# Altium integrated library TI Amplifiers and Linear Special Function Amplifier.IntLib: 708 symbols (part 43 of 47)
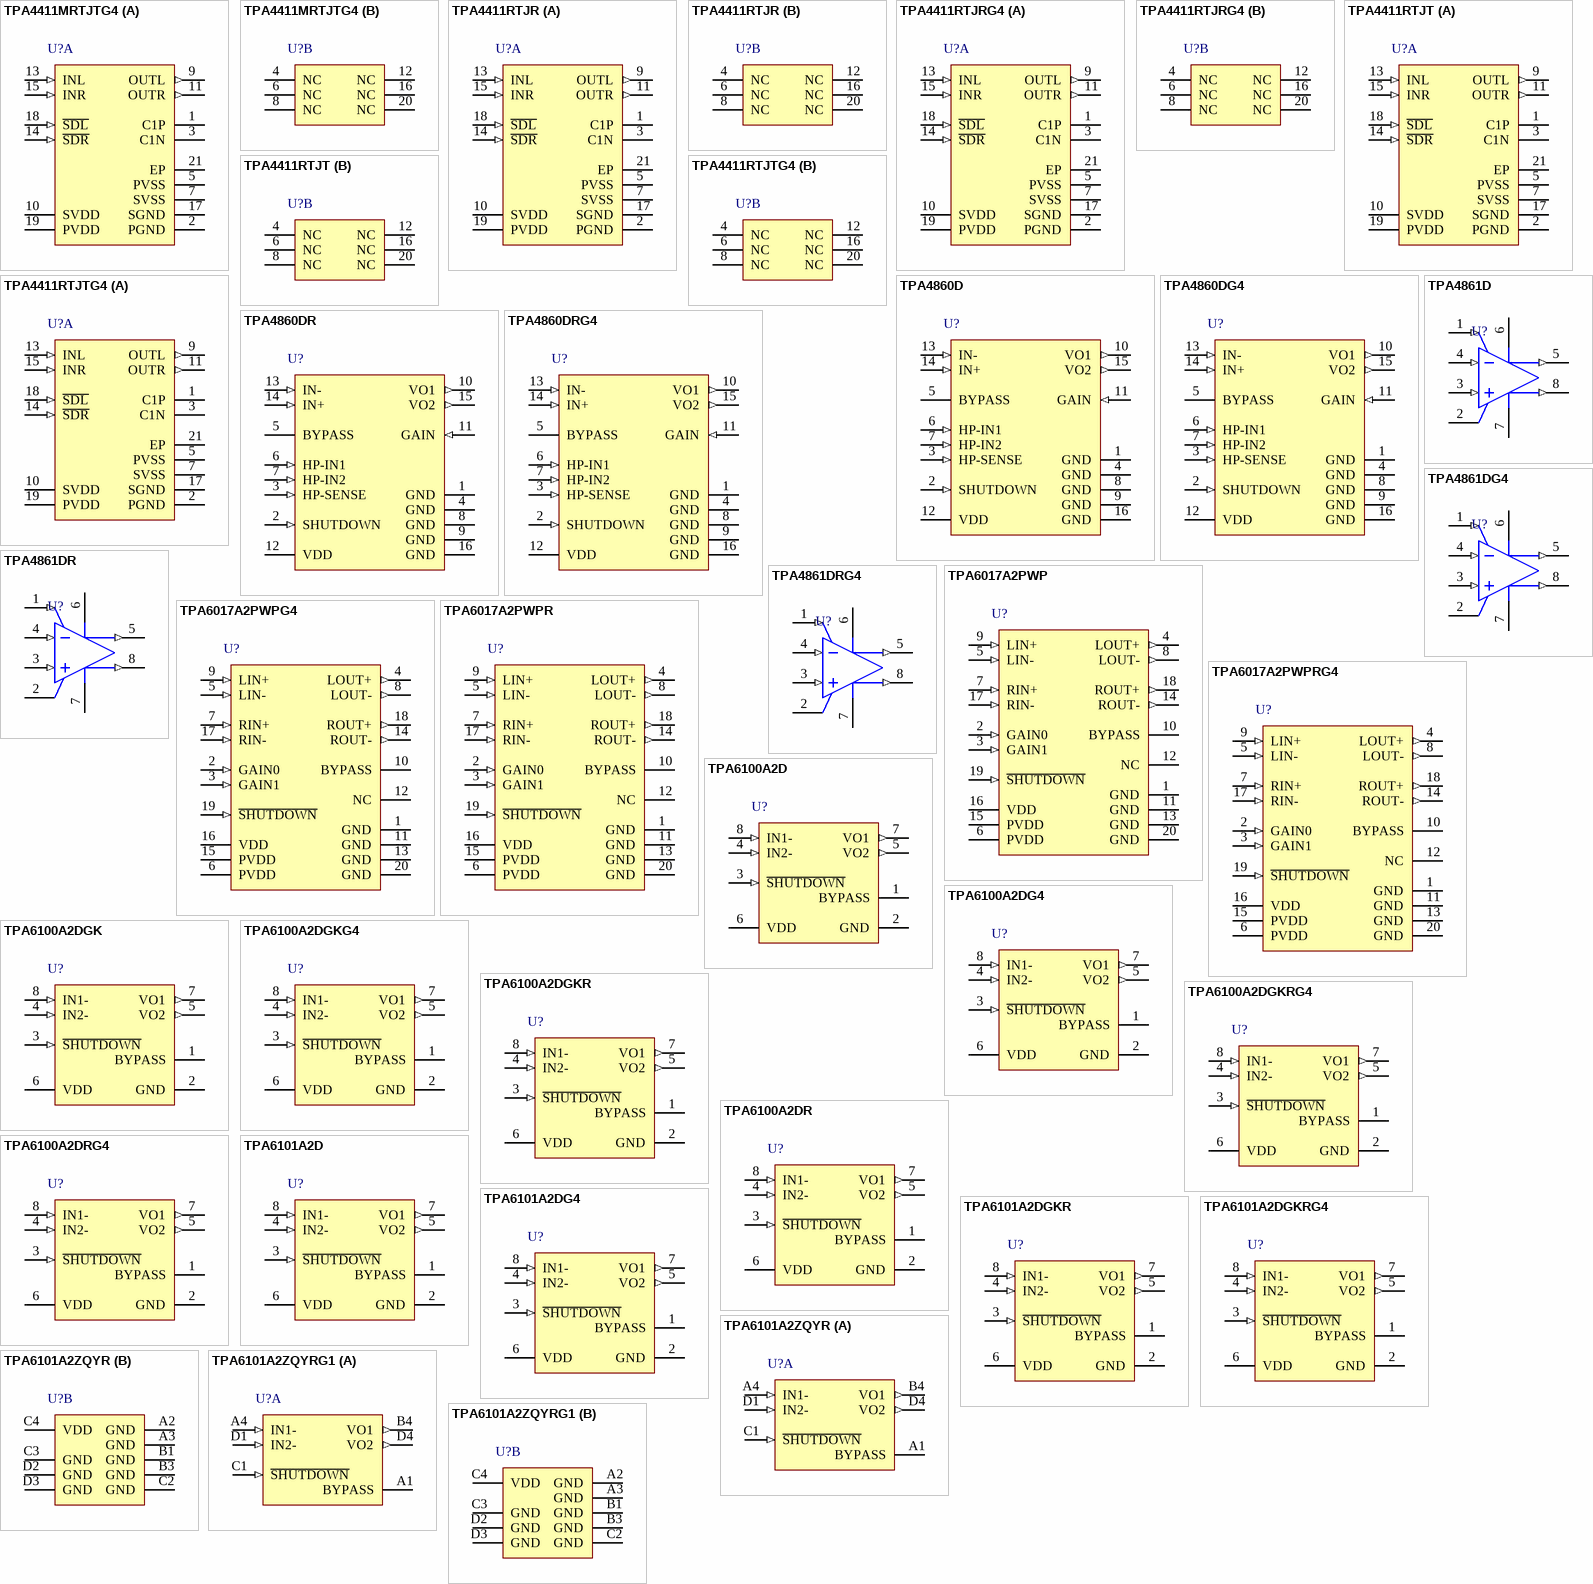
[diagram p81: symbols TPA4411MRTJTG4 to TPA6101A2ZQYRG1]

## TPA6017A2PWP
designator U?
Stereo, Cost Effective, Class-AB Audio Amplifier, -40 to 85 degC, 20-pin SOP (PWP20), Green (RoHS & no Sb/Br); Manufacturer: Texas Instruments; PartNumber: TPA6017A2PWP; Output Power(W): 1.9; PSRR(dB): 77; SubFamily: Dynamic Speaker; Supply Max(Max)(Volt): 5.5; Supply Min(Min)(Volt): 4.5; DatasheetVersion: SLOS386A; PackageVersion: 4073225-4/I, 05/2011; PackageReference: PWP20-3005X2005TP; PackageDescription: 20-Pin Plastic Small Outline, Body 4.4 x 6.5 mm, Pitch 0.65 mm; Supplier 1: Digi-Key; Supplier Part Number 1: 296-34557-5-ND; Supplier 2: Newark; Supplier Part Number 2: 76C9824; Supplier 3: Mouser; Supplier Part Number 3: 595-TPA6017A2PWP; Eco-Plan: Green (RoHS & no Sb/Br); Speaker Amp Type: Class-AB; Speaker Channels: Stereo; Mounting Technology: Surface Mount; Code_JEDEC: MO-153; ComponentLink1Description: Manufacturer URL; ComponentLink1URL: http://www.ti.com/; ComponentLink2Description: Datasheet; ComponentLink2URL: http://www.ti.com/general/docs/lit/getliterature.tsp?genericPartNumber=TPA6017A2&fileType=pdf; ComponentLink3Description: Package Specification; ComponentLink3URL: http://www.ti.com/lit/ml/mhts001g/mhts001g.pdf
footprint TI-PWP20-3005X2005TP_N (SOP, 20-Leads, Body 6.5x4.4mm, Pitch 0.65mm, Thermal Pad 3.4x2.4mm, IPC Medium Density)
footprint TI-PWP20-3005X2005TP_L (SOP, 20-Leads, Body 6.5x4.4mm, Pitch 0.65mm, Thermal Pad 3.4x2.4mm, IPC High Density)
footprint TI-PWP20-3005X2005TP_M (SOP, 20-Leads, Body 6.5x4.4mm, Pitch 0.65mm, Thermal Pad 3.4x2.4mm, IPC Low Density)
pins: 1 GND (power) "Ground", 2 GAIN0 (in) "Bit 0 of gain select", 3 GAIN1 (in) "Bit 1 of gain select", 4 LOUT+ (out) "Left channel positive output", 5 LIN- (in) "Left channel negative differential input", 6 PVDD (power) "Supply voltage terminal", 7 RIN+ (in) "Right channel positive differential input", 8 LOUT- (out) "Left channel negative output", 9 LIN+ (in) "Left channel positive differential input", 10 BYPASS "Tap to voltage divider for internal midsupply bias generator", 11 GND (power) "Ground", 12 NC, 13 GND (power) "Ground", 14 ROUT- (out) "Right channel negative output", 15 PVDD (power) "Supply voltage terminal", 16 VDD (power) "Supply voltage terminal", 17 RIN- (in) "Right channel negative differential input", 18 ROUT+ (out) "Right channel positive output", 19 ~{SHUTDOWN} (in) "Places IC in shutdown mode when held low", 20 GND (power) "Ground"

## TPA6017A2PWPG4
designator U?
Stereo, Cost Effective, Class-AB Audio Amplifier, -40 to 85 degC, 20-pin SOP (PWP20), Green (RoHS & no Sb/Br); Manufacturer: Texas Instruments; PartNumber: TPA6017A2PWPG4; Output Power(W): 1.9; PSRR(dB): 77; SubFamily: Dynamic Speaker; Supply Max(Max)(Volt): 5.5; Supply Min(Min)(Volt): 4.5; DatasheetVersion: SLOS386A; PackageVersion: 4073225-4/I, 05/2011; PackageReference: PWP20-3005X2005TP; PackageDescription: 20-Pin Plastic Small Outline, Body 4.4 x 6.5 mm, Pitch 0.65 mm; Supplier 1: Digi-Key; Supplier Part Number 1: TPA6017A2PWPG4-ND; Supplier 2: Mouser; Supplier Part Number 2: 595-TPA6017A2PWPG4; Eco-Plan: Green (RoHS & no Sb/Br); Speaker Amp Type: Class-AB; Speaker Channels: Stereo; Mounting Technology: Surface Mount; Code_JEDEC: MO-153; ComponentLink1Description: Manufacturer URL; ComponentLink1URL: http://www.ti.com/; ComponentLink2Description: Datasheet; ComponentLink2URL: http://www.ti.com/general/docs/lit/getliterature.tsp?genericPartNumber=TPA6017A2&fileType=pdf; ComponentLink3Description: Package Specification; ComponentLink3URL: http://www.ti.com/lit/ml/mhts001g/mhts001g.pdf
footprint TI-PWP20-3005X2005TP_N (SOP, 20-Leads, Body 6.5x4.4mm, Pitch 0.65mm, Thermal Pad 3.4x2.4mm, IPC Medium Density)
footprint TI-PWP20-3005X2005TP_L (SOP, 20-Leads, Body 6.5x4.4mm, Pitch 0.65mm, Thermal Pad 3.4x2.4mm, IPC High Density)
footprint TI-PWP20-3005X2005TP_M (SOP, 20-Leads, Body 6.5x4.4mm, Pitch 0.65mm, Thermal Pad 3.4x2.4mm, IPC Low Density)
pins: 1 GND (power) "Ground", 2 GAIN0 (in) "Bit 0 of gain select", 3 GAIN1 (in) "Bit 1 of gain select", 4 LOUT+ (out) "Left channel positive output", 5 LIN- (in) "Left channel negative differential input", 6 PVDD (power) "Supply voltage terminal", 7 RIN+ (in) "Right channel positive differential input", 8 LOUT- (out) "Left channel negative output", 9 LIN+ (in) "Left channel positive differential input", 10 BYPASS "Tap to voltage divider for internal midsupply bias generator", 11 GND (power) "Ground", 12 NC, 13 GND (power) "Ground", 14 ROUT- (out) "Right channel negative output", 15 PVDD (power) "Supply voltage terminal", 16 VDD (power) "Supply voltage terminal", 17 RIN- (in) "Right channel negative differential input", 18 ROUT+ (out) "Right channel positive output", 19 ~{SHUTDOWN} (in) "Places IC in shutdown mode when held low", 20 GND (power) "Ground"

## TPA6017A2PWPR
designator U?
Stereo, Cost Effective, Class-AB Audio Amplifier, -40 to 85 degC, 20-pin SOP (PWP20), Green (RoHS & no Sb/Br); Manufacturer: Texas Instruments; PartNumber: TPA6017A2PWPR; Output Power(W): 1.9; PSRR(dB): 77; SubFamily: Dynamic Speaker; Supply Max(Max)(Volt): 5.5; Supply Min(Min)(Volt): 4.5; DatasheetVersion: SLOS386A; PackageVersion: 4073225-4/I, 05/2011; PackageReference: PWP20-3005X2005TP; PackageDescription: 20-Pin Plastic Small Outline, Body 4.4 x 6.5 mm, Pitch 0.65 mm; Supplier 1: Digi-Key; Supplier Part Number 1: 296-12506-2-ND; Supplier 2: Digi-Key; Supplier Part Number 2: 296-12506-1-ND; Supplier 3: Digi-Key; Supplier Part Number 3: 296-12506-6-ND; Supplier 4: Newark; Supplier Part Number 4: 76C9825; Supplier 5: Mouser; Supplier Part Number 5: 595-TPA6017A2PWPR; Eco-Plan: Green (RoHS & no Sb/Br); Speaker Amp Type: Class-AB; Speaker Channels: Stereo; Mounting Technology: Surface Mount; Code_JEDEC: MO-153; ComponentLink1Description: Manufacturer URL; ComponentLink1URL: http://www.ti.com/; ComponentLink2Description: Datasheet; ComponentLink2URL: http://www.ti.com/general/docs/lit/getliterature.tsp?genericPartNumber=TPA6017A2&fileType=pdf; ComponentLink3Description: Package Specification; ComponentLink3URL: http://www.ti.com/lit/ml/mhts001g/mhts001g.pdf
footprint TI-PWP20-3005X2005TP_N (SOP, 20-Leads, Body 6.5x4.4mm, Pitch 0.65mm, Thermal Pad 3.4x2.4mm, IPC Medium Density)
footprint TI-PWP20-3005X2005TP_L (SOP, 20-Leads, Body 6.5x4.4mm, Pitch 0.65mm, Thermal Pad 3.4x2.4mm, IPC High Density)
footprint TI-PWP20-3005X2005TP_M (SOP, 20-Leads, Body 6.5x4.4mm, Pitch 0.65mm, Thermal Pad 3.4x2.4mm, IPC Low Density)
pins: 1 GND (power) "Ground", 2 GAIN0 (in) "Bit 0 of gain select", 3 GAIN1 (in) "Bit 1 of gain select", 4 LOUT+ (out) "Left channel positive output", 5 LIN- (in) "Left channel negative differential input", 6 PVDD (power) "Supply voltage terminal", 7 RIN+ (in) "Right channel positive differential input", 8 LOUT- (out) "Left channel negative output", 9 LIN+ (in) "Left channel positive differential input", 10 BYPASS "Tap to voltage divider for internal midsupply bias generator", 11 GND (power) "Ground", 12 NC, 13 GND (power) "Ground", 14 ROUT- (out) "Right channel negative output", 15 PVDD (power) "Supply voltage terminal", 16 VDD (power) "Supply voltage terminal", 17 RIN- (in) "Right channel negative differential input", 18 ROUT+ (out) "Right channel positive output", 19 ~{SHUTDOWN} (in) "Places IC in shutdown mode when held low", 20 GND (power) "Ground"

## TPA6017A2PWPRG4
designator U?
Stereo, Cost Effective, Class-AB Audio Amplifier, -40 to 85 degC, 20-pin SOP (PWP20), Green (RoHS & no Sb/Br); Manufacturer: Texas Instruments; PartNumber: TPA6017A2PWPRG4; Output Power(W): 1.9; PSRR(dB): 77; SubFamily: Dynamic Speaker; Supply Max(Max)(Volt): 5.5; Supply Min(Min)(Volt): 4.5; DatasheetVersion: SLOS386A; PackageVersion: 4073225-4/I, 05/2011; PackageReference: PWP20-3005X2005TP; PackageDescription: 20-Pin Plastic Small Outline, Body 4.4 x 6.5 mm, Pitch 0.65 mm; Supplier 1: Digi-Key; Supplier Part Number 1: TPA6017A2PWPRG4-ND; Supplier 2: Mouser; Supplier Part Number 2: 595-TPA6017A2PWPRG4; Eco-Plan: Green (RoHS & no Sb/Br); Speaker Amp Type: Class-AB; Speaker Channels: Stereo; Mounting Technology: Surface Mount; Code_JEDEC: MO-153; ComponentLink1Description: Manufacturer URL; ComponentLink1URL: http://www.ti.com/; ComponentLink2Description: Datasheet; ComponentLink2URL: http://www.ti.com/general/docs/lit/getliterature.tsp?genericPartNumber=TPA6017A2&fileType=pdf; ComponentLink3Description: Package Specification; ComponentLink3URL: http://www.ti.com/lit/ml/mhts001g/mhts001g.pdf
footprint TI-PWP20-3005X2005TP_N (SOP, 20-Leads, Body 6.5x4.4mm, Pitch 0.65mm, Thermal Pad 3.4x2.4mm, IPC Medium Density)
footprint TI-PWP20-3005X2005TP_L (SOP, 20-Leads, Body 6.5x4.4mm, Pitch 0.65mm, Thermal Pad 3.4x2.4mm, IPC High Density)
footprint TI-PWP20-3005X2005TP_M (SOP, 20-Leads, Body 6.5x4.4mm, Pitch 0.65mm, Thermal Pad 3.4x2.4mm, IPC Low Density)
pins: 1 GND (power) "Ground", 2 GAIN0 (in) "Bit 0 of gain select", 3 GAIN1 (in) "Bit 1 of gain select", 4 LOUT+ (out) "Left channel positive output", 5 LIN- (in) "Left channel negative differential input", 6 PVDD (power) "Supply voltage terminal", 7 RIN+ (in) "Right channel positive differential input", 8 LOUT- (out) "Left channel negative output", 9 LIN+ (in) "Left channel positive differential input", 10 BYPASS "Tap to voltage divider for internal midsupply bias generator", 11 GND (power) "Ground", 12 NC, 13 GND (power) "Ground", 14 ROUT- (out) "Right channel negative output", 15 PVDD (power) "Supply voltage terminal", 16 VDD (power) "Supply voltage terminal", 17 RIN- (in) "Right channel negative differential input", 18 ROUT+ (out) "Right channel positive output", 19 ~{SHUTDOWN} (in) "Places IC in shutdown mode when held low", 20 GND (power) "Ground"

## TPA6100A2D
designator U?
50-mW Ultra Low-Voltage Stereo Headphone Audio Amplifier, -40 to 85 degC, 8-pin SOIC (D8), Green (RoHS & no Sb/Br); Manufacturer: Texas Instruments; PartNumber: TPA6100A2D; Half Power THD + N @ 1 kHz (%)(kHz): 0.2; ISD(uA): 0.05; Load(Min)(ohms): 16; PSRR(dB): 72; SubFamily: Headphone Amplifier; Supply Max(Max)(Volt): 3.6; Supply Min(Min)(Volt): 1.6; DatasheetVersion: SLOS269B; PackageVersion: 4040047-3/M, 06/2011; PackageReference: D8; PackageDescription: 8-Pin Plastic Small Outline, Body 4.9 x 3.9 mm, Pitch 1.27 mm; Supplier 1: Digi-Key; Supplier Part Number 1: 296-34558-5-ND; Supplier 2: Farnell; Supplier Part Number 2: 8456569; Supplier 3: Newark; Supplier Part Number 3: 38K8605; Supplier 4: Newark; Supplier Part Number 4: 76C9826; Supplier 5: Mouser; Supplier Part Number 5: 595-TPA6100A2D; Eco-Plan: Green (RoHS & no Sb/Br); Headphone Channels: Stereo; Output Power(W): 0.05; Mounting Technology: Surface Mount; Code_JEDEC: MS-012; ComponentLink1Description: Manufacturer URL; ComponentLink1URL: http://www.ti.com/; ComponentLink2Description: Datasheet; ComponentLink2URL: http://www.ti.com/general/docs/lit/getliterature.tsp?genericPartNumber=TPA6100A2&fileType=pdf; ComponentLink3Description: Package Specification; ComponentLink3URL: http://www.ti.com/litv/pdf/msoi002j
footprint TI-D8_N (SOIC, 8-Leads, Body 5x4mm, Pitch 1.27mm, IPC Medium Density)
footprint TI-D8_L (SOIC, 8-Leads, Body 5x4mm, Pitch 1.27mm, IPC High Density)
footprint TI-D8_M (SOIC, 8-Leads, Body 5x4mm, Pitch 1.27mm, IPC Low Density)
pins: 1 BYPASS "Tap to voltage divider for internal mid-supply bias supply. BYPASS is set at VDD/4. Connect to a 0.1-uF to 1-uF low ESR capacitor for best performance.", 2 GND (power) "GND is the ground connection.", 3 ~{SHUTDOWN} (in) "Active-low input. When held low, the device is placed in a low supply current mode.", 4 IN2- (in) "IN2- is the inverting input for channel 2.", 5 VO2 (out) "VO2 is the audio output for channel 2.", 6 VDD (power) "VDD is the supply voltage terminal.", 7 VO1 (out) "VO1 is the audio output for channel 1.", 8 IN1- (in) "IN1- is the inverting input for channel 1."

## TPA6100A2DG4
designator U?
50-mW Ultra Low-Voltage Stereo Headphone Audio Amplifier, -40 to 85 degC, 8-pin SOIC (D8), Green (RoHS & no Sb/Br); Manufacturer: Texas Instruments; PartNumber: TPA6100A2DG4; Half Power THD + N @ 1 kHz (%)(kHz): 0.2; ISD(uA): 0.05; Load(Min)(ohms): 16; PSRR(dB): 72; SubFamily: Headphone Amplifier; Supply Max(Max)(Volt): 3.6; Supply Min(Min)(Volt): 1.6; DatasheetVersion: SLOS269B; PackageVersion: 4040047-3/M, 06/2011; PackageReference: D8; PackageDescription: 8-Pin Plastic Small Outline, Body 4.9 x 3.9 mm, Pitch 1.27 mm; Supplier 1: Digi-Key; Supplier Part Number 1: TPA6100A2DG4-ND; Supplier 2: Mouser; Supplier Part Number 2: 595-TPA6100A2DG4; Eco-Plan: Green (RoHS & no Sb/Br); Headphone Channels: Stereo; Output Power(W): 0.05; Mounting Technology: Surface Mount; Code_JEDEC: MS-012; ComponentLink1Description: Manufacturer URL; ComponentLink1URL: http://www.ti.com/; ComponentLink2Description: Datasheet; ComponentLink2URL: http://www.ti.com/general/docs/lit/getliterature.tsp?genericPartNumber=TPA6100A2&fileType=pdf; ComponentLink3Description: Package Specification; ComponentLink3URL: http://www.ti.com/litv/pdf/msoi002j
footprint TI-D8_N (SOIC, 8-Leads, Body 5x4mm, Pitch 1.27mm, IPC Medium Density)
footprint TI-D8_L (SOIC, 8-Leads, Body 5x4mm, Pitch 1.27mm, IPC High Density)
footprint TI-D8_M (SOIC, 8-Leads, Body 5x4mm, Pitch 1.27mm, IPC Low Density)
pins: 1 BYPASS "Tap to voltage divider for internal mid-supply bias supply. BYPASS is set at VDD/4. Connect to a 0.1-uF to 1-uF low ESR capacitor for best performance.", 2 GND (power) "GND is the ground connection.", 3 ~{SHUTDOWN} (in) "Active-low input. When held low, the device is placed in a low supply current mode.", 4 IN2- (in) "IN2- is the inverting input for channel 2.", 5 VO2 (out) "VO2 is the audio output for channel 2.", 6 VDD (power) "VDD is the supply voltage terminal.", 7 VO1 (out) "VO1 is the audio output for channel 1.", 8 IN1- (in) "IN1- is the inverting input for channel 1."

## TPA6100A2DGK
designator U?
50-mW Ultra Low-Voltage Stereo Headphone Audio Amplifier, -40 to 85 degC, 8-pin SOP (DGK8), Green (RoHS & no Sb/Br); Manufacturer: Texas Instruments; PartNumber: TPA6100A2DGK; Half Power THD + N @ 1 kHz (%)(kHz): 0.2; ISD(uA): 0.05; Load(Min)(ohms): 16; PSRR(dB): 72; SubFamily: Headphone Amplifier; Supply Max(Max)(Volt): 3.6; Supply Min(Min)(Volt): 1.6; DatasheetVersion: SLOS269B; PackageVersion: 4073329/E, 05/2006; PackageReference: DGK8; PackageDescription: 8-Pin Thin Small Outline, Body 3 x 3 mm, Pitch 0.65 mm; Supplier 1: Digi-Key; Supplier Part Number 1: 296-34559-5-ND; Supplier 2: Farnell; Supplier Part Number 2: 1412022; Supplier 3: Newark; Supplier Part Number 3: 76C9827; Supplier 4: Mouser; Supplier Part Number 4: 595-TPA6100A2DGK; Eco-Plan: Green (RoHS & no Sb/Br); Headphone Channels: Stereo; Output Power(W): 0.05; Mounting Technology: Surface Mount; Code_JEDEC: MO-187; ComponentLink1Description: Manufacturer URL; ComponentLink1URL: http://www.ti.com/; ComponentLink2Description: Datasheet; ComponentLink2URL: http://www.ti.com/general/docs/lit/getliterature.tsp?genericPartNumber=TPA6100A2&fileType=pdf; ComponentLink3Description: Package Specification; ComponentLink3URL: http://www.ti.com/litv/pdf/mpds028d
footprint TI-DGK8_N (SOP, 8-Leads, Body 3.1x3.1mm, Pitch 0.65mm, IPC Medium Density)
footprint TI-DGK8_L (SOP, 8-Leads, Body 3.1x3.1mm, Pitch 0.65mm, IPC High Density)
footprint TI-DGK8_M (SOP, 8-Leads, Body 3.1x3.1mm, Pitch 0.65mm, IPC Low Density)
pins: 1 BYPASS "Tap to voltage divider for internal mid-supply bias supply. BYPASS is set at VDD/4. Connect to a 0.1-uF to 1-uF low ESR capacitor for best performance.", 2 GND (power) "GND is the ground connection.", 3 ~{SHUTDOWN} (in) "Active-low input. When held low, the device is placed in a low supply current mode.", 4 IN2- (in) "IN2- is the inverting input for channel 2.", 5 VO2 (out) "VO2 is the audio output for channel 2.", 6 VDD (power) "VDD is the supply voltage terminal.", 7 VO1 (out) "VO1 is the audio output for channel 1.", 8 IN1- (in) "IN1- is the inverting input for channel 1."

## TPA6100A2DGKG4
designator U?
50-mW Ultra Low-Voltage Stereo Headphone Audio Amplifier, -40 to 85 degC, 8-pin SOP (DGK8), Green (RoHS & no Sb/Br); Manufacturer: Texas Instruments; PartNumber: TPA6100A2DGKG4; Half Power THD + N @ 1 kHz (%)(kHz): 0.2; ISD(uA): 0.05; Load(Min)(ohms): 16; PSRR(dB): 72; SubFamily: Headphone Amplifier; Supply Max(Max)(Volt): 3.6; Supply Min(Min)(Volt): 1.6; DatasheetVersion: SLOS269B; PackageVersion: 4073329/E, 05/2006; PackageReference: DGK8; PackageDescription: 8-Pin Thin Small Outline, Body 3 x 3 mm, Pitch 0.65 mm; Supplier 1: Digi-Key; Supplier Part Number 1: TPA6100A2DGKG4-ND; Supplier 2: Mouser; Supplier Part Number 2: 595-TPA6100A2DGKG4; Eco-Plan: Green (RoHS & no Sb/Br); Headphone Channels: Stereo; Output Power(W): 0.05; Mounting Technology: Surface Mount; Code_JEDEC: MO-187; ComponentLink1Description: Manufacturer URL; ComponentLink1URL: http://www.ti.com/; ComponentLink2Description: Datasheet; ComponentLink2URL: http://www.ti.com/general/docs/lit/getliterature.tsp?genericPartNumber=TPA6100A2&fileType=pdf; ComponentLink3Description: Package Specification; ComponentLink3URL: http://www.ti.com/litv/pdf/mpds028d
footprint TI-DGK8_N (SOP, 8-Leads, Body 3.1x3.1mm, Pitch 0.65mm, IPC Medium Density)
footprint TI-DGK8_L (SOP, 8-Leads, Body 3.1x3.1mm, Pitch 0.65mm, IPC High Density)
footprint TI-DGK8_M (SOP, 8-Leads, Body 3.1x3.1mm, Pitch 0.65mm, IPC Low Density)
pins: 1 BYPASS "Tap to voltage divider for internal mid-supply bias supply. BYPASS is set at VDD/4. Connect to a 0.1-uF to 1-uF low ESR capacitor for best performance.", 2 GND (power) "GND is the ground connection.", 3 ~{SHUTDOWN} (in) "Active-low input. When held low, the device is placed in a low supply current mode.", 4 IN2- (in) "IN2- is the inverting input for channel 2.", 5 VO2 (out) "VO2 is the audio output for channel 2.", 6 VDD (power) "VDD is the supply voltage terminal.", 7 VO1 (out) "VO1 is the audio output for channel 1.", 8 IN1- (in) "IN1- is the inverting input for channel 1."

## TPA6100A2DGKR
designator U?
50-mW Ultra Low-Voltage Stereo Headphone Audio Amplifier, -40 to 85 degC, 8-pin SOP (DGK8), Green (RoHS & no Sb/Br); Manufacturer: Texas Instruments; PartNumber: TPA6100A2DGKR; Half Power THD + N @ 1 kHz (%)(kHz): 0.2; ISD(uA): 0.05; Load(Min)(ohms): 16; PSRR(dB): 72; SubFamily: Headphone Amplifier; Supply Max(Max)(Volt): 3.6; Supply Min(Min)(Volt): 1.6; DatasheetVersion: SLOS269B; PackageVersion: 4073329/E, 05/2006; PackageReference: DGK8; PackageDescription: 8-Pin Thin Small Outline, Body 3 x 3 mm, Pitch 0.65 mm; Supplier 1: Digi-Key; Supplier Part Number 1: 296-7016-2-ND; Supplier 2: Digi-Key; Supplier Part Number 2: 296-7016-1-ND; Supplier 3: Digi-Key; Supplier Part Number 3: 296-7016-6-ND; Supplier 4: Mouser; Supplier Part Number 4: 595-TPA6100A2DGKR; Eco-Plan: Green (RoHS & no Sb/Br); Headphone Channels: Stereo; Output Power(W): 0.05; Mounting Technology: Surface Mount; Code_JEDEC: MO-187; ComponentLink1Description: Manufacturer URL; ComponentLink1URL: http://www.ti.com/; ComponentLink2Description: Datasheet; ComponentLink2URL: http://www.ti.com/general/docs/lit/getliterature.tsp?genericPartNumber=TPA6100A2&fileType=pdf; ComponentLink3Description: Package Specification; ComponentLink3URL: http://www.ti.com/litv/pdf/mpds028d
footprint TI-DGK8_N (SOP, 8-Leads, Body 3.1x3.1mm, Pitch 0.65mm, IPC Medium Density)
footprint TI-DGK8_L (SOP, 8-Leads, Body 3.1x3.1mm, Pitch 0.65mm, IPC High Density)
footprint TI-DGK8_M (SOP, 8-Leads, Body 3.1x3.1mm, Pitch 0.65mm, IPC Low Density)
pins: 1 BYPASS "Tap to voltage divider for internal mid-supply bias supply. BYPASS is set at VDD/4. Connect to a 0.1-uF to 1-uF low ESR capacitor for best performance.", 2 GND (power) "GND is the ground connection.", 3 ~{SHUTDOWN} (in) "Active-low input. When held low, the device is placed in a low supply current mode.", 4 IN2- (in) "IN2- is the inverting input for channel 2.", 5 VO2 (out) "VO2 is the audio output for channel 2.", 6 VDD (power) "VDD is the supply voltage terminal.", 7 VO1 (out) "VO1 is the audio output for channel 1.", 8 IN1- (in) "IN1- is the inverting input for channel 1."

## TPA6100A2DGKRG4
designator U?
50-mW Ultra Low-Voltage Stereo Headphone Audio Amplifier, -40 to 85 degC, 8-pin SOP (DGK8), Green (RoHS & no Sb/Br); Manufacturer: Texas Instruments; PartNumber: TPA6100A2DGKRG4; Half Power THD + N @ 1 kHz (%)(kHz): 0.2; ISD(uA): 0.05; Load(Min)(ohms): 16; PSRR(dB): 72; SubFamily: Headphone Amplifier; Supply Max(Max)(Volt): 3.6; Supply Min(Min)(Volt): 1.6; DatasheetVersion: SLOS269B; PackageVersion: 4073329/E, 05/2006; PackageReference: DGK8; PackageDescription: 8-Pin Thin Small Outline, Body 3 x 3 mm, Pitch 0.65 mm; Supplier 1: Digi-Key; Supplier Part Number 1: TPA6100A2DGKRG4-ND; Supplier 2: Mouser; Supplier Part Number 2: 595-TPA6100A2DGKRG4; Eco-Plan: Green (RoHS & no Sb/Br); Headphone Channels: Stereo; Output Power(W): 0.05; Mounting Technology: Surface Mount; Code_JEDEC: MO-187; ComponentLink1Description: Manufacturer URL; ComponentLink1URL: http://www.ti.com/; ComponentLink2Description: Datasheet; ComponentLink2URL: http://www.ti.com/general/docs/lit/getliterature.tsp?genericPartNumber=TPA6100A2&fileType=pdf; ComponentLink3Description: Package Specification; ComponentLink3URL: http://www.ti.com/litv/pdf/mpds028d
footprint TI-DGK8_N (SOP, 8-Leads, Body 3.1x3.1mm, Pitch 0.65mm, IPC Medium Density)
footprint TI-DGK8_L (SOP, 8-Leads, Body 3.1x3.1mm, Pitch 0.65mm, IPC High Density)
footprint TI-DGK8_M (SOP, 8-Leads, Body 3.1x3.1mm, Pitch 0.65mm, IPC Low Density)
pins: 1 BYPASS "Tap to voltage divider for internal mid-supply bias supply. BYPASS is set at VDD/4. Connect to a 0.1-uF to 1-uF low ESR capacitor for best performance.", 2 GND (power) "GND is the ground connection.", 3 ~{SHUTDOWN} (in) "Active-low input. When held low, the device is placed in a low supply current mode.", 4 IN2- (in) "IN2- is the inverting input for channel 2.", 5 VO2 (out) "VO2 is the audio output for channel 2.", 6 VDD (power) "VDD is the supply voltage terminal.", 7 VO1 (out) "VO1 is the audio output for channel 1.", 8 IN1- (in) "IN1- is the inverting input for channel 1."

## TPA6100A2DR
designator U?
50-mW Ultra Low-Voltage Stereo Headphone Audio Amplifier, -40 to 85 degC, 8-pin SOIC (D8), Green (RoHS & no Sb/Br); Manufacturer: Texas Instruments; PartNumber: TPA6100A2DR; Half Power THD + N @ 1 kHz (%)(kHz): 0.2; ISD(uA): 0.05; Load(Min)(ohms): 16; PSRR(dB): 72; SubFamily: Headphone Amplifier; Supply Max(Max)(Volt): 3.6; Supply Min(Min)(Volt): 1.6; DatasheetVersion: SLOS269B; PackageVersion: 4040047-3/M, 06/2011; PackageReference: D8; PackageDescription: 8-Pin Plastic Small Outline, Body 4.9 x 3.9 mm, Pitch 1.27 mm; Supplier 1: Digi-Key; Supplier Part Number 1: 296-7017-2-ND; Supplier 2: Digi-Key; Supplier Part Number 2: 296-7017-1-ND; Supplier 3: Digi-Key; Supplier Part Number 3: 296-7017-6-ND; Supplier 4: Mouser; Supplier Part Number 4: 595-TPA6100A2DR; Eco-Plan: Green (RoHS & no Sb/Br); Headphone Channels: Stereo; Output Power(W): 0.05; Mounting Technology: Surface Mount; Code_JEDEC: MS-012; ComponentLink1Description: Manufacturer URL; ComponentLink1URL: http://www.ti.com/; ComponentLink2Description: Datasheet; ComponentLink2URL: http://www.ti.com/general/docs/lit/getliterature.tsp?genericPartNumber=TPA6100A2&fileType=pdf; ComponentLink3Description: Package Specification; ComponentLink3URL: http://www.ti.com/litv/pdf/msoi002j
footprint TI-D8_N (SOIC, 8-Leads, Body 5x4mm, Pitch 1.27mm, IPC Medium Density)
footprint TI-D8_L (SOIC, 8-Leads, Body 5x4mm, Pitch 1.27mm, IPC High Density)
footprint TI-D8_M (SOIC, 8-Leads, Body 5x4mm, Pitch 1.27mm, IPC Low Density)
pins: 1 BYPASS "Tap to voltage divider for internal mid-supply bias supply. BYPASS is set at VDD/4. Connect to a 0.1-uF to 1-uF low ESR capacitor for best performance.", 2 GND (power) "GND is the ground connection.", 3 ~{SHUTDOWN} (in) "Active-low input. When held low, the device is placed in a low supply current mode.", 4 IN2- (in) "IN2- is the inverting input for channel 2.", 5 VO2 (out) "VO2 is the audio output for channel 2.", 6 VDD (power) "VDD is the supply voltage terminal.", 7 VO1 (out) "VO1 is the audio output for channel 1.", 8 IN1- (in) "IN1- is the inverting input for channel 1."

## TPA6100A2DRG4
designator U?
50-mW Ultra Low-Voltage Stereo Headphone Audio Amplifier, -40 to 85 degC, 8-pin SOIC (D8), Green (RoHS & no Sb/Br); Manufacturer: Texas Instruments; PartNumber: TPA6100A2DRG4; Half Power THD + N @ 1 kHz (%)(kHz): 0.2; ISD(uA): 0.05; Load(Min)(ohms): 16; PSRR(dB): 72; SubFamily: Headphone Amplifier; Supply Max(Max)(Volt): 3.6; Supply Min(Min)(Volt): 1.6; DatasheetVersion: SLOS269B; PackageVersion: 4040047-3/M, 06/2011; PackageReference: D8; PackageDescription: 8-Pin Plastic Small Outline, Body 4.9 x 3.9 mm, Pitch 1.27 mm; Supplier 1: Digi-Key; Supplier Part Number 1: TPA6100A2DRG4-ND; Supplier 2: Mouser; Supplier Part Number 2: 595-TPA6100A2DRG4; Eco-Plan: Green (RoHS & no Sb/Br); Headphone Channels: Stereo; Output Power(W): 0.05; Mounting Technology: Surface Mount; Code_JEDEC: MS-012; ComponentLink1Description: Manufacturer URL; ComponentLink1URL: http://www.ti.com/; ComponentLink2Description: Datasheet; ComponentLink2URL: http://www.ti.com/general/docs/lit/getliterature.tsp?genericPartNumber=TPA6100A2&fileType=pdf; ComponentLink3Description: Package Specification; ComponentLink3URL: http://www.ti.com/litv/pdf/msoi002j
footprint TI-D8_N (SOIC, 8-Leads, Body 5x4mm, Pitch 1.27mm, IPC Medium Density)
footprint TI-D8_L (SOIC, 8-Leads, Body 5x4mm, Pitch 1.27mm, IPC High Density)
footprint TI-D8_M (SOIC, 8-Leads, Body 5x4mm, Pitch 1.27mm, IPC Low Density)
pins: 1 BYPASS "Tap to voltage divider for internal mid-supply bias supply. BYPASS is set at VDD/4. Connect to a 0.1-uF to 1-uF low ESR capacitor for best performance.", 2 GND (power) "GND is the ground connection.", 3 ~{SHUTDOWN} (in) "Active-low input. When held low, the device is placed in a low supply current mode.", 4 IN2- (in) "IN2- is the inverting input for channel 2.", 5 VO2 (out) "VO2 is the audio output for channel 2.", 6 VDD (power) "VDD is the supply voltage terminal.", 7 VO1 (out) "VO1 is the audio output for channel 1.", 8 IN1- (in) "IN1- is the inverting input for channel 1."

## TPA6101A2D
designator U?
50-mW Ultra Low-Voltage, Stereo Headphone Audio Amplifier with Fixed Gain (2 dB), -40 to 85 degC, 8-pin SOIC (D8), Green (RoHS & no Sb/Br); Manufacturer: Texas Instruments; PartNumber: TPA6101A2D; Half Power THD + N @ 1 kHz (%)(kHz): 0.1; ISD(uA): 0.05; Load(Min)(ohms): 16; PSRR(dB): 72; SubFamily: Headphone Amplifier; Supply Max(Max)(Volt): 3.6; Supply Min(Min)(Volt): 1.6; DatasheetVersion: SLOS331C; PackageVersion: 4040047-3/M, 06/2011; PackageReference: D8; PackageDescription: 8-Pin Plastic Small Outline, Body 4.9 x 3.9 mm, Pitch 1.27 mm; Supplier 1: Digi-Key; Supplier Part Number 1: 296-7018-5-ND; Supplier 2: Newark; Supplier Part Number 2: 76C9831; Supplier 3: Mouser; Supplier Part Number 3: 595-TPA6101A2D; Eco-Plan: Green (RoHS & no Sb/Br); Headphone Channels: Stereo; Output Power(W): 0.05; Special Features: Fixed Gain; Mounting Technology: Surface Mount; Code_JEDEC: MS-012; ComponentLink1Description: Manufacturer URL; ComponentLink1URL: http://www.ti.com/; ComponentLink2Description: Datasheet; ComponentLink2URL: http://www.ti.com/general/docs/lit/getliterature.tsp?genericPartNumber=TPA6101A2&fileType=pdf; ComponentLink3Description: Package Specification; ComponentLink3URL: http://www.ti.com/litv/pdf/msoi002j
footprint TI-D8_N (SOIC, 8-Leads, Body 5x4mm, Pitch 1.27mm, IPC Medium Density)
footprint TI-D8_L (SOIC, 8-Leads, Body 5x4mm, Pitch 1.27mm, IPC High Density)
footprint TI-D8_M (SOIC, 8-Leads, Body 5x4mm, Pitch 1.27mm, IPC Low Density)
pins: 1 BYPASS "Tap to voltage divider for internal mid-supply bias supply. BYPASS is set at VDD/4. Connect to a 0.1-uF to 1-uF low ESR capacitor for best performance.", 2 GND (power) "GND is the ground connection.", 3 ~{SHUTDOWN} (in) "Active-low input. When held low, the device is placed in a low supply current mode.", 4 IN2- (in) "IN2- is the inverting input for channel 2.", 5 VO2 (out) "VO2 is the audio output for channel 2.", 6 VDD (power) "VDD is the supply voltage terminal.", 7 VO1 (out) "VO1 is the audio output for channel 1.", 8 IN1- (in) "IN1- is the inverting input for channel 1."

## TPA6101A2DG4
designator U?
50-mW Ultra Low-Voltage, Stereo Headphone Audio Amplifier with Fixed Gain (2 dB), -40 to 85 degC, 8-pin SOIC (D8), Green (RoHS & no Sb/Br); Manufacturer: Texas Instruments; PartNumber: TPA6101A2DG4; Half Power THD + N @ 1 kHz (%)(kHz): 0.1; ISD(uA): 0.05; Load(Min)(ohms): 16; PSRR(dB): 72; SubFamily: Headphone Amplifier; Supply Max(Max)(Volt): 3.6; Supply Min(Min)(Volt): 1.6; DatasheetVersion: SLOS331C; PackageVersion: 4040047-3/M, 06/2011; PackageReference: D8; PackageDescription: 8-Pin Plastic Small Outline, Body 4.9 x 3.9 mm, Pitch 1.27 mm; Supplier 1: Digi-Key; Supplier Part Number 1: TPA6101A2DG4-ND; Supplier 2: Mouser; Supplier Part Number 2: 595-TPA6101A2DG4; Eco-Plan: Green (RoHS & no Sb/Br); Headphone Channels: Stereo; Output Power(W): 0.05; Special Features: Fixed Gain; Mounting Technology: Surface Mount; Code_JEDEC: MS-012; ComponentLink1Description: Manufacturer URL; ComponentLink1URL: http://www.ti.com/; ComponentLink2Description: Datasheet; ComponentLink2URL: http://www.ti.com/general/docs/lit/getliterature.tsp?genericPartNumber=TPA6101A2&fileType=pdf; ComponentLink3Description: Package Specification; ComponentLink3URL: http://www.ti.com/litv/pdf/msoi002j
footprint TI-D8_N (SOIC, 8-Leads, Body 5x4mm, Pitch 1.27mm, IPC Medium Density)
footprint TI-D8_L (SOIC, 8-Leads, Body 5x4mm, Pitch 1.27mm, IPC High Density)
footprint TI-D8_M (SOIC, 8-Leads, Body 5x4mm, Pitch 1.27mm, IPC Low Density)
pins: 1 BYPASS "Tap to voltage divider for internal mid-supply bias supply. BYPASS is set at VDD/4. Connect to a 0.1-uF to 1-uF low ESR capacitor for best performance.", 2 GND (power) "GND is the ground connection.", 3 ~{SHUTDOWN} (in) "Active-low input. When held low, the device is placed in a low supply current mode.", 4 IN2- (in) "IN2- is the inverting input for channel 2.", 5 VO2 (out) "VO2 is the audio output for channel 2.", 6 VDD (power) "VDD is the supply voltage terminal.", 7 VO1 (out) "VO1 is the audio output for channel 1.", 8 IN1- (in) "IN1- is the inverting input for channel 1."

## TPA6101A2DGKR
designator U?
50-mW Ultra Low-Voltage, Stereo Headphone Audio Amplifier with Fixed Gain (2 dB), -40 to 85 degC, 8-pin SOP (DGK8), Green (RoHS & no Sb/Br); Manufacturer: Texas Instruments; PartNumber: TPA6101A2DGKR; Half Power THD + N @ 1 kHz (%)(kHz): 0.1; ISD(uA): 0.05; Load(Min)(ohms): 16; PSRR(dB): 72; SubFamily: Headphone Amplifier; Supply Max(Max)(Volt): 3.6; Supply Min(Min)(Volt): 1.6; DatasheetVersion: SLOS331C; PackageVersion: 4073329/E, 05/2006; PackageReference: DGK8; PackageDescription: 8-Pin Thin Small Outline, Body 3 x 3 mm, Pitch 0.65 mm; Supplier 1: Digi-Key; Supplier Part Number 1: 296-7019-2-ND; Supplier 2: Digi-Key; Supplier Part Number 2: 296-7019-1-ND; Supplier 3: Digi-Key; Supplier Part Number 3: 296-7019-6-ND; Supplier 4: Mouser; Supplier Part Number 4: 595-TPA6101A2DGKR; Eco-Plan: Green (RoHS & no Sb/Br); Headphone Channels: Stereo; Output Power(W): 0.05; Special Features: Fixed Gain; Mounting Technology: Surface Mount; Code_JEDEC: MO-187; ComponentLink1Description: Manufacturer URL; ComponentLink1URL: http://www.ti.com/; ComponentLink2Description: Datasheet; ComponentLink2URL: http://www.ti.com/general/docs/lit/getliterature.tsp?genericPartNumber=TPA6101A2&fileType=pdf; ComponentLink3Description: Package Specification; ComponentLink3URL: http://www.ti.com/litv/pdf/mpds028d
footprint TI-DGK8_N (SOP, 8-Leads, Body 3.1x3.1mm, Pitch 0.65mm, IPC Medium Density)
footprint TI-DGK8_L (SOP, 8-Leads, Body 3.1x3.1mm, Pitch 0.65mm, IPC High Density)
footprint TI-DGK8_M (SOP, 8-Leads, Body 3.1x3.1mm, Pitch 0.65mm, IPC Low Density)
pins: 1 BYPASS "Tap to voltage divider for internal mid-supply bias supply. BYPASS is set at VDD/4. Connect to a 0.1-uF to 1-uF low ESR capacitor for best performance.", 2 GND (power) "GND is the ground connection.", 3 ~{SHUTDOWN} (in) "Active-low input. When held low, the device is placed in a low supply current mode.", 4 IN2- (in) "IN2- is the inverting input for channel 2.", 5 VO2 (out) "VO2 is the audio output for channel 2.", 6 VDD (power) "VDD is the supply voltage terminal.", 7 VO1 (out) "VO1 is the audio output for channel 1.", 8 IN1- (in) "IN1- is the inverting input for channel 1."

## TPA6101A2DGKRG4
designator U?
50-mW Ultra Low-Voltage, Stereo Headphone Audio Amplifier with Fixed Gain (2 dB), -40 to 85 degC, 8-pin SOP (DGK8), Green (RoHS & no Sb/Br); Manufacturer: Texas Instruments; PartNumber: TPA6101A2DGKRG4; Half Power THD + N @ 1 kHz (%)(kHz): 0.1; ISD(uA): 0.05; Load(Min)(ohms): 16; PSRR(dB): 72; SubFamily: Headphone Amplifier; Supply Max(Max)(Volt): 3.6; Supply Min(Min)(Volt): 1.6; DatasheetVersion: SLOS331C; PackageVersion: 4073329/E, 05/2006; PackageReference: DGK8; PackageDescription: 8-Pin Thin Small Outline, Body 3 x 3 mm, Pitch 0.65 mm; Supplier 1: Digi-Key; Supplier Part Number 1: TPA6101A2DGKRG4-ND; Supplier 2: Mouser; Supplier Part Number 2: 595-TPA6101A2DGKRG4; Eco-Plan: Green (RoHS & no Sb/Br); Headphone Channels: Stereo; Output Power(W): 0.05; Special Features: Fixed Gain; Mounting Technology: Surface Mount; Code_JEDEC: MO-187; ComponentLink1Description: Manufacturer URL; ComponentLink1URL: http://www.ti.com/; ComponentLink2Description: Datasheet; ComponentLink2URL: http://www.ti.com/general/docs/lit/getliterature.tsp?genericPartNumber=TPA6101A2&fileType=pdf; ComponentLink3Description: Package Specification; ComponentLink3URL: http://www.ti.com/litv/pdf/mpds028d
footprint TI-DGK8_N (SOP, 8-Leads, Body 3.1x3.1mm, Pitch 0.65mm, IPC Medium Density)
footprint TI-DGK8_L (SOP, 8-Leads, Body 3.1x3.1mm, Pitch 0.65mm, IPC High Density)
footprint TI-DGK8_M (SOP, 8-Leads, Body 3.1x3.1mm, Pitch 0.65mm, IPC Low Density)
pins: 1 BYPASS "Tap to voltage divider for internal mid-supply bias supply. BYPASS is set at VDD/4. Connect to a 0.1-uF to 1-uF low ESR capacitor for best performance.", 2 GND (power) "GND is the ground connection.", 3 ~{SHUTDOWN} (in) "Active-low input. When held low, the device is placed in a low supply current mode.", 4 IN2- (in) "IN2- is the inverting input for channel 2.", 5 VO2 (out) "VO2 is the audio output for channel 2.", 6 VDD (power) "VDD is the supply voltage terminal.", 7 VO1 (out) "VO1 is the audio output for channel 1.", 8 IN1- (in) "IN1- is the inverting input for channel 1."

## TPA6101A2ZQYR
designator U?
50-mW Ultra Low-Voltage, Stereo Headphone Audio Amplifier with Fixed Gain (2 dB), -40 to 85 degC, 15-pin BGA (ZQY15), Green (RoHS & no Sb/Br); Manufacturer: Texas Instruments; PartNumber: TPA6101A2ZQYR; Half Power THD + N @ 1 kHz (%)(kHz): 0.1; ISD(uA): 0.05; Load(Min)(ohms): 16; PSRR(dB): 72; SubFamily: Headphone Amplifier; Supply Max(Max)(Volt): 3.6; Supply Min(Min)(Volt): 1.6; DatasheetVersion: SLOS331C; PackageVersion: 4205130/A, 05/2003; PackageReference: ZQY15; PackageDescription: 15-Ball Plastic Grid Array, Body 2.5 x 2.5 mm, Pitch 0.5 mm; Supplier 1: Digi-Key; Supplier Part Number 1: 296-21674-2-ND; Supplier 2: Digi-Key; Supplier Part Number 2: 296-21674-1-ND; Supplier 3: Mouser; Supplier Part Number 3: 595-TPA6101A2ZQYR; Eco-Plan: Green (RoHS & no Sb/Br); Headphone Channels: Stereo; Output Power(W): 0.05; Special Features: Fixed Gain; Mounting Technology: Surface Mount; Code_JEDEC: MO-225; ComponentLink1Description: Manufacturer URL; ComponentLink1URL: http://www.ti.com/; ComponentLink2Description: Datasheet; ComponentLink2URL: http://www.ti.com/general/docs/lit/getliterature.tsp?genericPartNumber=TPA6101A2&fileType=pdf; ComponentLink3Description: Package Specification; ComponentLink3URL: http://www.ti.com/litv/pdf/mpbg361
footprint TI-ZQY15 (BGA, 15-Balls, Body 2.5x2.5mm, Pitch 0.5mm)
part A pins: A1 BYPASS "Tap to voltage divider for internal mid-supply bias supply. BYPASS is set at VDD/4. Connect to a 0.1-uF to 1-uF low-ESR capacitor for best performance.", A4 IN1- (in) "IN1- is the inverting input for channel 1.", B4 VO1 (out) "VO1 is the audio output for channel 1.", C1 ~{SHUTDOWN} (in) "Active-low input. When held low, the device is placed in a low-supply-current mode.", D1 IN2- (in) "IN2- is the inverting input for channel 2.", D4 VO2 (out) "VO2 is the audio output for channel 2."
part B pins: A2 GND (power) "GND is the ground connection.", A3 GND (power) "GND is the ground connection.", B1 GND (power) "GND is the ground connection.", B3 GND (power) "GND is the ground connection.", C2 GND (power) "GND is the ground connection.", C3 GND (power) "GND is the ground connection.", C4 VDD (power) "VDD is the supply voltage terminal.", D2 GND (power) "GND is the ground connection.", D3 GND (power) "GND is the ground connection."

## TPA6101A2ZQYRG1
designator U?
50-mW Ultra Low-Voltage, Stereo Headphone Audio Amplifier with Fixed Gain (2 dB), -40 to 85 degC, 15-pin BGA (ZQY15), Green (RoHS & no Sb/Br); Manufacturer: Texas Instruments; PartNumber: TPA6101A2ZQYRG1; Half Power THD + N @ 1 kHz (%)(kHz): 0.1; ISD(uA): 0.05; Load(Min)(ohms): 16; PSRR(dB): 72; SubFamily: Headphone Amplifier; Supply Max(Max)(Volt): 3.6; Supply Min(Min)(Volt): 1.6; DatasheetVersion: SLOS331C; PackageVersion: 4205130/A, 05/2003; PackageReference: ZQY15; PackageDescription: 15-Ball Plastic Grid Array, Body 2.5 x 2.5 mm, Pitch 0.5 mm; Supplier 1: Digi-Key; Supplier Part Number 1: TPA6101A2ZQYRG1-ND; Supplier 2: Mouser; Supplier Part Number 2: 595-TPA6101A2ZQYRG1; Eco-Plan: Green (RoHS & no Sb/Br); Headphone Channels: Stereo; Output Power(W): 0.05; Special Features: Fixed Gain; Mounting Technology: Surface Mount; Code_JEDEC: MO-225; ComponentLink1Description: Manufacturer URL; ComponentLink1URL: http://www.ti.com/; ComponentLink2Description: Datasheet; ComponentLink2URL: http://www.ti.com/general/docs/lit/getliterature.tsp?genericPartNumber=TPA6101A2&fileType=pdf; ComponentLink3Description: Package Specification; ComponentLink3URL: http://www.ti.com/litv/pdf/mpbg361
footprint TI-ZQY15 (BGA, 15-Balls, Body 2.5x2.5mm, Pitch 0.5mm)
part A pins: A1 BYPASS "Tap to voltage divider for internal mid-supply bias supply. BYPASS is set at VDD/4. Connect to a 0.1-uF to 1-uF low-ESR capacitor for best performance.", A4 IN1- (in) "IN1- is the inverting input for channel 1.", B4 VO1 (out) "VO1 is the audio output for channel 1.", C1 ~{SHUTDOWN} (in) "Active-low input. When held low, the device is placed in a low-supply-current mode.", D1 IN2- (in) "IN2- is the inverting input for channel 2.", D4 VO2 (out) "VO2 is the audio output for channel 2."
part B pins: A2 GND (power) "GND is the ground connection.", A3 GND (power) "GND is the ground connection.", B1 GND (power) "GND is the ground connection.", B3 GND (power) "GND is the ground connection.", C2 GND (power) "GND is the ground connection.", C3 GND (power) "GND is the ground connection.", C4 VDD (power) "VDD is the supply voltage terminal.", D2 GND (power) "GND is the ground connection.", D3 GND (power) "GND is the ground connection."

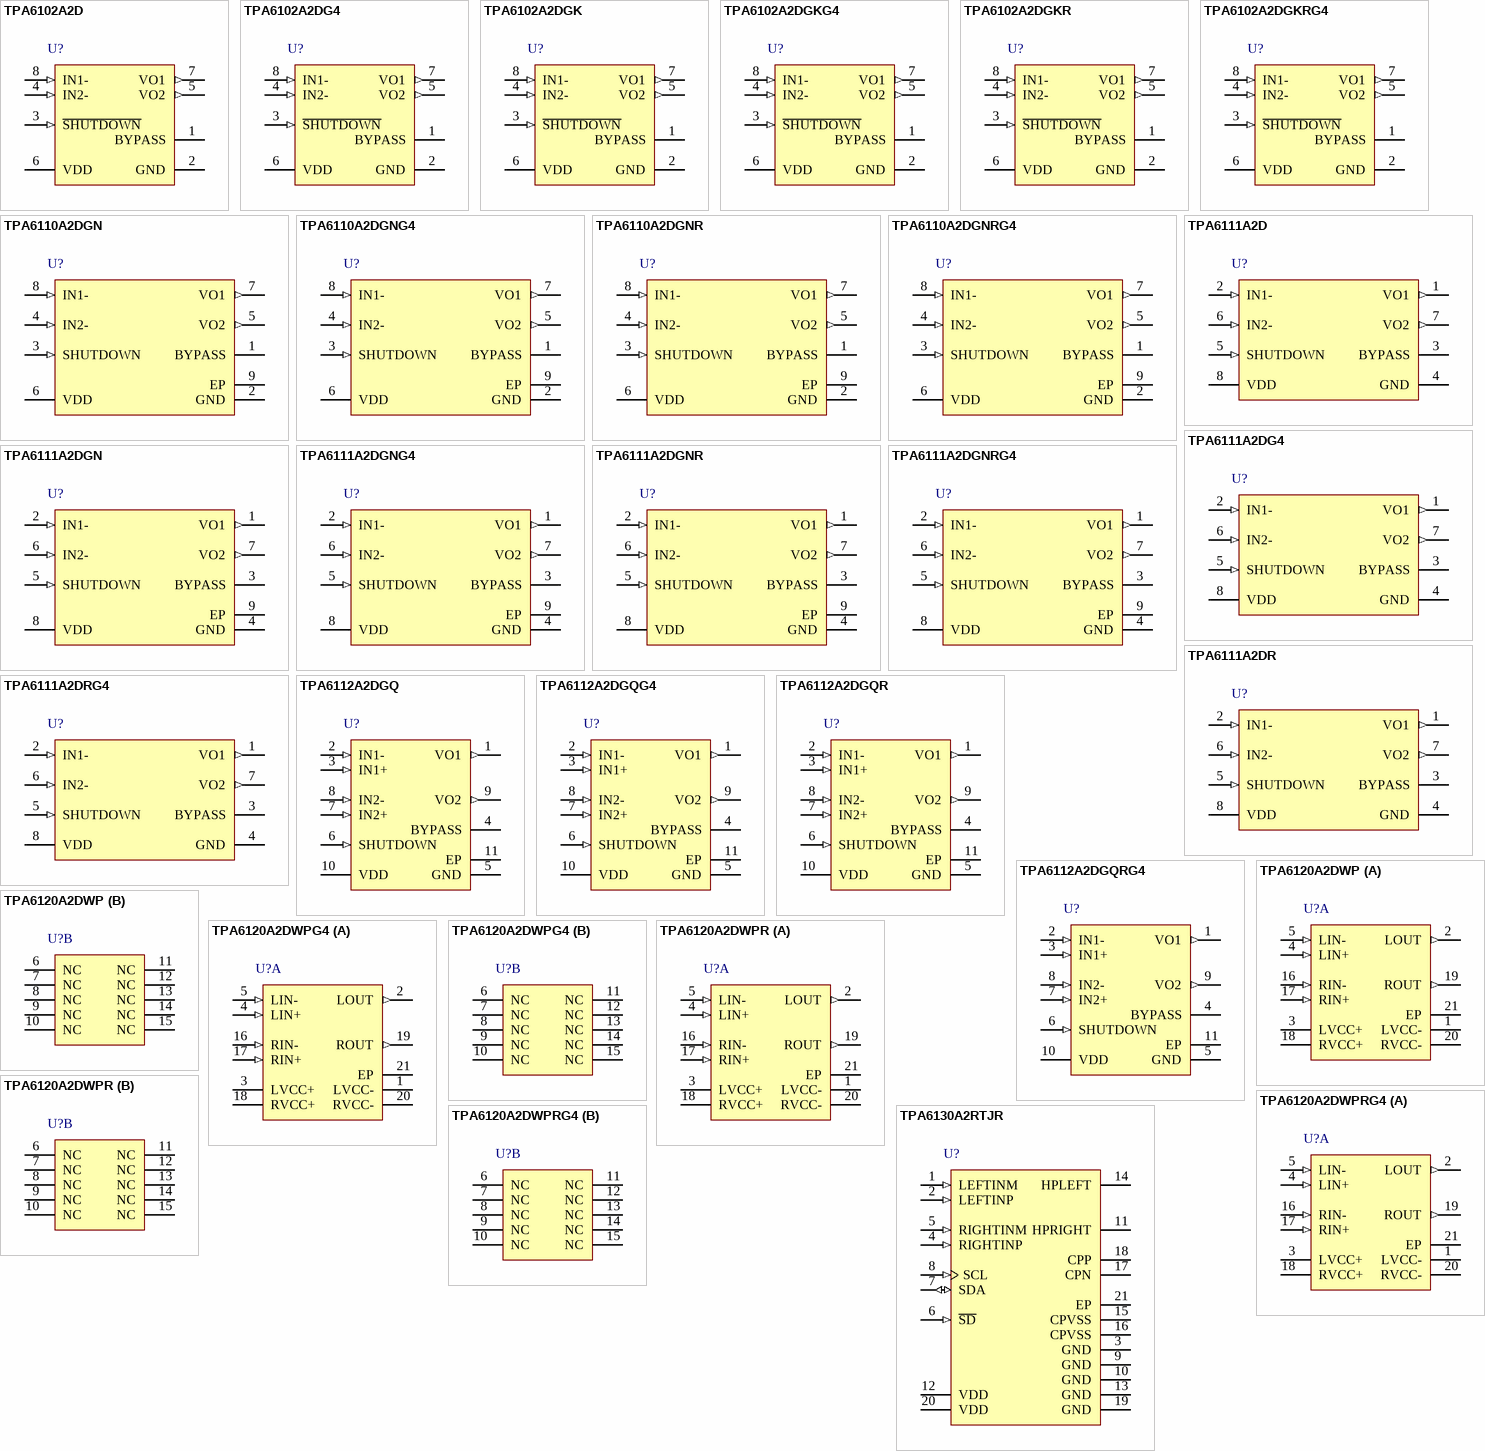
[diagram p37: symbols TPA6102A2D to TPA6130A2RTJR]

## TPA6102A2D
designator U?
50-mW Ultra Low-Voltage, Stereo Headphone Audio Amplifier with Fixed Gain (14 dB), -40 to 85 degC, 8-pin SOIC (D8), Green (RoHS & no Sb/Br); Manufacturer: Texas Instruments; PartNumber: TPA6102A2D; ISD(uA): 0.05; Load(Min)(ohms): 16; PSRR(dB): 72; SubFamily: Headphone Amplifier; Supply Max(Max)(Volt): 3.6; Supply Min(Min)(Volt): 1.6; DatasheetVersion: SLOS324B; PackageVersion: 4040047-3/M, 06/2011; PackageReference: D8; PackageDescription: 8-Pin Plastic Small Outline, Body 4.9 x 3.9 mm, Pitch 1.27 mm; Supplier 1: Digi-Key; Supplier Part Number 1: 296-7020-5-ND; Supplier 2: Mouser; Supplier Part Number 2: 595-TPA6102A2D; Eco-Plan: Green (RoHS & no Sb/Br); Headphone Channels: Stereo; Output Power(W): 0.05; Mounting Technology: Surface Mount; Code_JEDEC: MS-012; ComponentLink1Description: Manufacturer URL; ComponentLink1URL: http://www.ti.com/; ComponentLink2Description: Datasheet; ComponentLink2URL: http://www.ti.com/general/docs/lit/getliterature.tsp?genericPartNumber=TPA6102A2&fileType=pdf; ComponentLink3Description: Package Specification; ComponentLink3URL: http://www.ti.com/litv/pdf/msoi002j
footprint TI-D8_N (SOIC, 8-Leads, Body 5x4mm, Pitch 1.27mm, IPC Medium Density)
footprint TI-D8_L (SOIC, 8-Leads, Body 5x4mm, Pitch 1.27mm, IPC High Density)
footprint TI-D8_M (SOIC, 8-Leads, Body 5x4mm, Pitch 1.27mm, IPC Low Density)
pins: 1 BYPASS "Tap to voltage divider for internal mid-supply bias supply. BYPASS is set at VDD/4. Connect to a 0.1-uF to 1-uF low ESR capacitor for best performance.", 2 GND (power) "GND is the ground connection.", 3 ~{SHUTDOWN} (in) "Active-low input. When held low, the device is placed in a low supply current mode.", 4 IN2- (in) "IN2- is the inverting input for channel 2.", 5 VO2 (out) "VO2 is the audio output for channel 2.", 6 VDD (power) "VDD is the supply voltage terminal.", 7 VO1 (out) "VO1 is the audio output for channel 1.", 8 IN1- (in) "IN1- is the inverting input for channel 1."

## TPA6102A2DG4
designator U?
50-mW Ultra Low-Voltage, Stereo Headphone Audio Amplifier with Fixed Gain (14 dB), -40 to 85 degC, 8-pin SOIC (D8), Green (RoHS & no Sb/Br); Manufacturer: Texas Instruments; PartNumber: TPA6102A2DG4; ISD(uA): 0.05; Load(Min)(ohms): 16; PSRR(dB): 72; SubFamily: Headphone Amplifier; Supply Max(Max)(Volt): 3.6; Supply Min(Min)(Volt): 1.6; DatasheetVersion: SLOS324B; PackageVersion: 4040047-3/M, 06/2011; PackageReference: D8; PackageDescription: 8-Pin Plastic Small Outline, Body 4.9 x 3.9 mm, Pitch 1.27 mm; Supplier 1: Digi-Key; Supplier Part Number 1: TPA6102A2DG4-ND; Supplier 2: Mouser; Supplier Part Number 2: 595-TPA6102A2DG4; Eco-Plan: Green (RoHS & no Sb/Br); Headphone Channels: Stereo; Output Power(W): 0.05; Mounting Technology: Surface Mount; Code_JEDEC: MS-012; ComponentLink1Description: Manufacturer URL; ComponentLink1URL: http://www.ti.com/; ComponentLink2Description: Datasheet; ComponentLink2URL: http://www.ti.com/general/docs/lit/getliterature.tsp?genericPartNumber=TPA6102A2&fileType=pdf; ComponentLink3Description: Package Specification; ComponentLink3URL: http://www.ti.com/litv/pdf/msoi002j
footprint TI-D8_N (SOIC, 8-Leads, Body 5x4mm, Pitch 1.27mm, IPC Medium Density)
footprint TI-D8_L (SOIC, 8-Leads, Body 5x4mm, Pitch 1.27mm, IPC High Density)
footprint TI-D8_M (SOIC, 8-Leads, Body 5x4mm, Pitch 1.27mm, IPC Low Density)
pins: 1 BYPASS "Tap to voltage divider for internal mid-supply bias supply. BYPASS is set at VDD/4. Connect to a 0.1-uF to 1-uF low ESR capacitor for best performance.", 2 GND (power) "GND is the ground connection.", 3 ~{SHUTDOWN} (in) "Active-low input. When held low, the device is placed in a low supply current mode.", 4 IN2- (in) "IN2- is the inverting input for channel 2.", 5 VO2 (out) "VO2 is the audio output for channel 2.", 6 VDD (power) "VDD is the supply voltage terminal.", 7 VO1 (out) "VO1 is the audio output for channel 1.", 8 IN1- (in) "IN1- is the inverting input for channel 1."

## TPA6102A2DGK
designator U?
50-mW Ultra Low-Voltage, Stereo Headphone Audio Amplifier with Fixed Gain (14 dB), -40 to 85 degC, 8-pin SOP (DGK8), Green (RoHS & no Sb/Br); Manufacturer: Texas Instruments; PartNumber: TPA6102A2DGK; ISD(uA): 0.05; Load(Min)(ohms): 16; PSRR(dB): 72; SubFamily: Headphone Amplifier; Supply Max(Max)(Volt): 3.6; Supply Min(Min)(Volt): 1.6; DatasheetVersion: SLOS324B; PackageVersion: 4073329/E, 05/2006; PackageReference: DGK8; PackageDescription: 8-Pin Thin Small Outline, Body 3 x 3 mm, Pitch 0.65 mm; Supplier 1: Digi-Key; Supplier Part Number 1: TPA6102A2DGK-ND; Supplier 2: Mouser; Supplier Part Number 2: 595-TPA6102A2DGK; Eco-Plan: Green (RoHS & no Sb/Br); Headphone Channels: Stereo; Output Power(W): 0.05; Mounting Technology: Surface Mount; Code_JEDEC: MO-187; ComponentLink1Description: Manufacturer URL; ComponentLink1URL: http://www.ti.com/; ComponentLink2Description: Datasheet; ComponentLink2URL: http://www.ti.com/general/docs/lit/getliterature.tsp?genericPartNumber=TPA6102A2&fileType=pdf; ComponentLink3Description: Package Specification; ComponentLink3URL: http://www.ti.com/litv/pdf/mpds028d
footprint TI-DGK8_N (SOP, 8-Leads, Body 3.1x3.1mm, Pitch 0.65mm, IPC Medium Density)
footprint TI-DGK8_L (SOP, 8-Leads, Body 3.1x3.1mm, Pitch 0.65mm, IPC High Density)
footprint TI-DGK8_M (SOP, 8-Leads, Body 3.1x3.1mm, Pitch 0.65mm, IPC Low Density)
pins: 1 BYPASS "Tap to voltage divider for internal mid-supply bias supply. BYPASS is set at VDD/4. Connect to a 0.1-uF to 1-uF low ESR capacitor for best performance.", 2 GND (power) "GND is the ground connection.", 3 ~{SHUTDOWN} (in) "Active-low input. When held low, the device is placed in a low supply current mode.", 4 IN2- (in) "IN2- is the inverting input for channel 2.", 5 VO2 (out) "VO2 is the audio output for channel 2.", 6 VDD (power) "VDD is the supply voltage terminal.", 7 VO1 (out) "VO1 is the audio output for channel 1.", 8 IN1- (in) "IN1- is the inverting input for channel 1."

## TPA6102A2DGKG4
designator U?
50-mW Ultra Low-Voltage, Stereo Headphone Audio Amplifier with Fixed Gain (14 dB), -40 to 85 degC, 8-pin SOP (DGK8), Green (RoHS & no Sb/Br); Manufacturer: Texas Instruments; PartNumber: TPA6102A2DGKG4; ISD(uA): 0.05; Load(Min)(ohms): 16; PSRR(dB): 72; SubFamily: Headphone Amplifier; Supply Max(Max)(Volt): 3.6; Supply Min(Min)(Volt): 1.6; DatasheetVersion: SLOS324B; PackageVersion: 4073329/E, 05/2006; PackageReference: DGK8; PackageDescription: 8-Pin Thin Small Outline, Body 3 x 3 mm, Pitch 0.65 mm; Supplier 1: Digi-Key; Supplier Part Number 1: TPA6102A2DGKG4-ND; Supplier 2: Mouser; Supplier Part Number 2: 595-TPA6102A2DGKG4; Eco-Plan: Green (RoHS & no Sb/Br); Headphone Channels: Stereo; Output Power(W): 0.05; Mounting Technology: Surface Mount; Code_JEDEC: MO-187; ComponentLink1Description: Manufacturer URL; ComponentLink1URL: http://www.ti.com/; ComponentLink2Description: Datasheet; ComponentLink2URL: http://www.ti.com/general/docs/lit/getliterature.tsp?genericPartNumber=TPA6102A2&fileType=pdf; ComponentLink3Description: Package Specification; ComponentLink3URL: http://www.ti.com/litv/pdf/mpds028d
footprint TI-DGK8_N (SOP, 8-Leads, Body 3.1x3.1mm, Pitch 0.65mm, IPC Medium Density)
footprint TI-DGK8_L (SOP, 8-Leads, Body 3.1x3.1mm, Pitch 0.65mm, IPC High Density)
footprint TI-DGK8_M (SOP, 8-Leads, Body 3.1x3.1mm, Pitch 0.65mm, IPC Low Density)
pins: 1 BYPASS "Tap to voltage divider for internal mid-supply bias supply. BYPASS is set at VDD/4. Connect to a 0.1-uF to 1-uF low ESR capacitor for best performance.", 2 GND (power) "GND is the ground connection.", 3 ~{SHUTDOWN} (in) "Active-low input. When held low, the device is placed in a low supply current mode.", 4 IN2- (in) "IN2- is the inverting input for channel 2.", 5 VO2 (out) "VO2 is the audio output for channel 2.", 6 VDD (power) "VDD is the supply voltage terminal.", 7 VO1 (out) "VO1 is the audio output for channel 1.", 8 IN1- (in) "IN1- is the inverting input for channel 1."

## TPA6102A2DGKR
designator U?
50-mW Ultra Low-Voltage, Stereo Headphone Audio Amplifier with Fixed Gain (14 dB), -40 to 85 degC, 8-pin SOP (DGK8), Green (RoHS & no Sb/Br); Manufacturer: Texas Instruments; PartNumber: TPA6102A2DGKR; ISD(uA): 0.05; Load(Min)(ohms): 16; PSRR(dB): 72; SubFamily: Headphone Amplifier; Supply Max(Max)(Volt): 3.6; Supply Min(Min)(Volt): 1.6; DatasheetVersion: SLOS324B; PackageVersion: 4073329/E, 05/2006; PackageReference: DGK8; PackageDescription: 8-Pin Thin Small Outline, Body 3 x 3 mm, Pitch 0.65 mm; Supplier 1: Digi-Key; Supplier Part Number 1: 296-7021-2-ND; Supplier 2: Digi-Key; Supplier Part Number 2: 296-7021-1-ND; Supplier 3: Digi-Key; Supplier Part Number 3: 296-7021-6-ND; Supplier 4: Mouser; Supplier Part Number 4: 595-TPA6102A2DGKR; Eco-Plan: Green (RoHS & no Sb/Br); Headphone Channels: Stereo; Output Power(W): 0.05; Mounting Technology: Surface Mount; Code_JEDEC: MO-187; ComponentLink1Description: Manufacturer URL; ComponentLink1URL: http://www.ti.com/; ComponentLink2Description: Datasheet; ComponentLink2URL: http://www.ti.com/general/docs/lit/getliterature.tsp?genericPartNumber=TPA6102A2&fileType=pdf; ComponentLink3Description: Package Specification; ComponentLink3URL: http://www.ti.com/litv/pdf/mpds028d
footprint TI-DGK8_N (SOP, 8-Leads, Body 3.1x3.1mm, Pitch 0.65mm, IPC Medium Density)
footprint TI-DGK8_L (SOP, 8-Leads, Body 3.1x3.1mm, Pitch 0.65mm, IPC High Density)
footprint TI-DGK8_M (SOP, 8-Leads, Body 3.1x3.1mm, Pitch 0.65mm, IPC Low Density)
pins: 1 BYPASS "Tap to voltage divider for internal mid-supply bias supply. BYPASS is set at VDD/4. Connect to a 0.1-uF to 1-uF low ESR capacitor for best performance.", 2 GND (power) "GND is the ground connection.", 3 ~{SHUTDOWN} (in) "Active-low input. When held low, the device is placed in a low supply current mode.", 4 IN2- (in) "IN2- is the inverting input for channel 2.", 5 VO2 (out) "VO2 is the audio output for channel 2.", 6 VDD (power) "VDD is the supply voltage terminal.", 7 VO1 (out) "VO1 is the audio output for channel 1.", 8 IN1- (in) "IN1- is the inverting input for channel 1."